# Altium schematic symbol library Diode bridge 1A-1000V.SchLib: 1 symbol
Pins are listed as number, name and electrical type; pins without a type are passive.

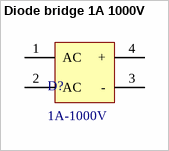
[diagram p0: symbol Diode bridge 1A 1000V]

## Diode bridge 1A 1000V
designator D?, comment 1A-1000V
footprint SOT510P1015X340-4N (SOT343, 4-Leads, Body 8.50x10.15mm, Pitch 5.10mm, IPC Medium Density)
pins: 1 AC, 2 AC, 3 -, 4 +